# Altium footprint library data_cards.PcbLib: 9 footprints
Each footprint in its own frame and in the unit in brackets; x right, y up, seen from the top. Pads: shape width x height; smd on the part's side, far side on the other; paste and mask are expansions set on the pad; w line width, h text height; cw(c..) or ccw(c..) is an arc to the next point about the centre after c.
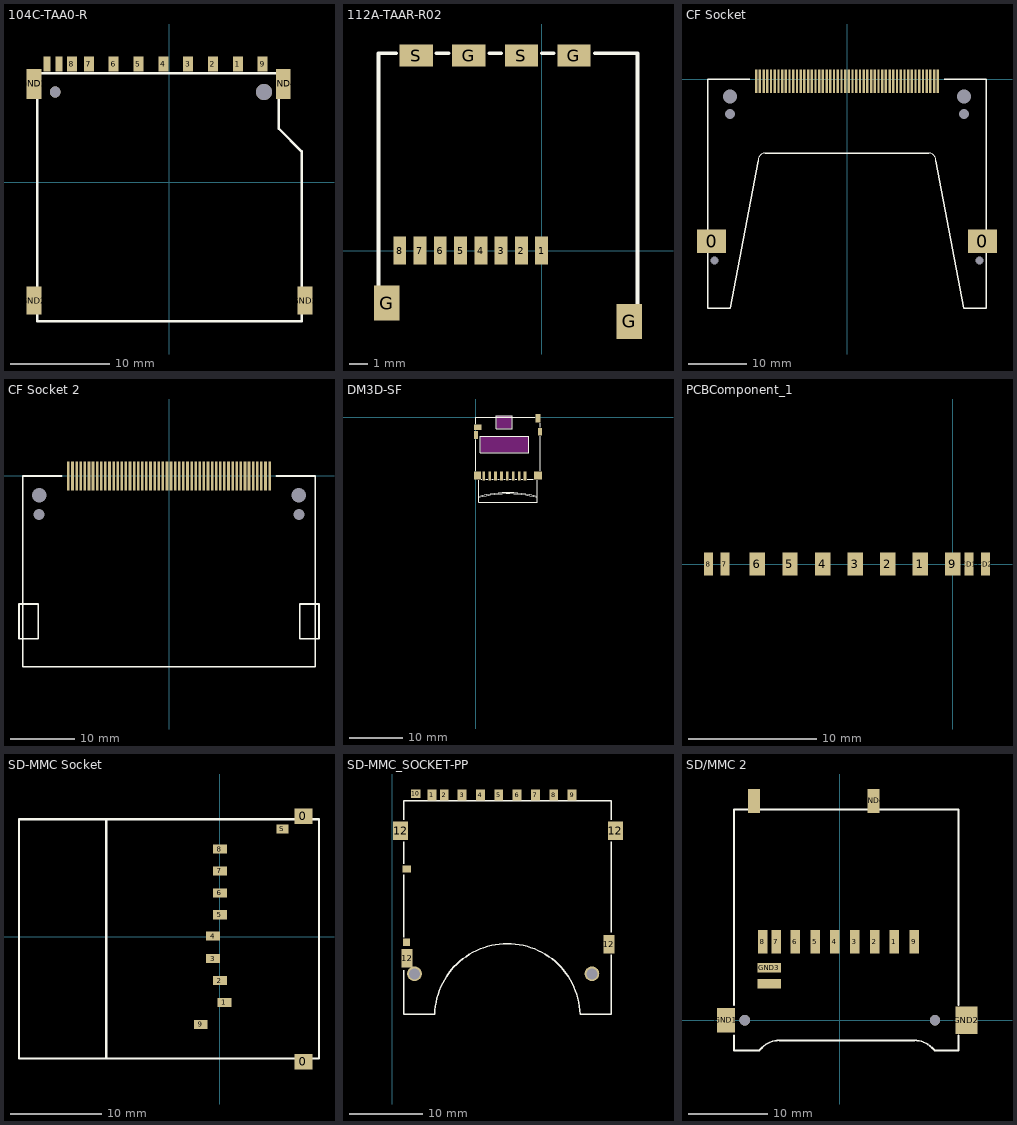
[diagram p0: the footprints below, top view; thin cyan lines are the x and y axes]

## 104C-TAA0-R [mm] "Attend Technology SD/MMC Card Connector"
pads (15):
  rect 1x1.5 smd: 1(6.875,11.9) 2(4.375,11.9) 3(1.875,11.9) 4(-0.625,11.9) 5(-3.125,11.9) 6(-5.625,11.9) 7(-8.125,11.9) 8(-9.825,11.9) 9(9.375,11.9)
  rect 0.7x1.5 smd: CardDetect(-11.125,11.9) WriteProtect(-12.325,11.9)
  rect 1.5x3 smd: GND1(-13.65,9.9) GND4(11.45,9.9)
  rect 1.5x2.8 smd: GND2(-13.65,-11.9) GND3(13.65,-11.9)
via 9.5,9.1 diameter 1.6 hole 1.6
via -11.5,9.1 diameter 1.1 hole 1.1
Top Overlay:
  lines w0.254: -13.3,-14 -13.3,11 11,11 11,5.4 13.3,3.1 13.3,-14 -13.3,-14
3D body: height 3.29, standoff -0.76, extent -14.065,-14.156 13.665,12.2

## 112A-TAAR-R02 [mm] "SD Micro; with ejector; SMD; 40m?; UL94V-0"
height 1.78
pads (14):
  rect 0.7x1.5 smd: 1(0,0) 2(-1.1,0) 3(-2.2,0) 4(-3.3,0) 5(-4.4,0) 6(-5.5,0) 7(-6.6,0) 8(-7.7,0)
  rect 1.4x1.9 smd: G(-8.4,-2.85) G(4.75,-3.85)
  rect 1.8x1.2 smd: G(-3.95,10.575) G(1.75,10.575) S(-6.8,10.575) S(-1.1,10.575)
Top Overlay:
  lines w0.2: -8.85,-1.9 -8.85,10.7 -7.9,10.7 ; -5.7,10.7 -5.05,10.7 ; -2.85,10.7 -2.2,10.7 ; 0,10.7 0.65,10.7 ; 2.875,10.7 5.175,10.7 ; 5.2,-2.9 5.2,10.7

## CF Socket [mil]
pads (58):
  rect 196.85x157.48 smd: 0(-913.56,-1094.27) 0(913.56,-1094.27)
  round 0 hole 51.18: 0(-893.7,-1224.19) 0(893.7,-1224.19)
  round 0 hole 67: 0(-790.5,-236) 0(790.5,-236)
  round 0 hole 94.87: 0(-790.5,-118) 0(790.5,-118)
  rect 16x157.48 smd: 1(-612.5,-15.75) 2(-562.5,-15.75) 3(-512.5,-15.75) 4(-462.5,-15.75) 5(-412.5,-15.75) 6(-362.5,-15.75) 7(-312.5,-15.75) 8(-262.5,-15.75) 9(-212.5,-15.75) 10(-162.5,-15.75) 11(-112.5,-15.75) 12(-62.5,-15.75) 13(-12.5,-15.75) 14(37.5,-15.75) 15(87.5,-15.75) 16(137.5,-15.75) 17(187.5,-15.75) 18(237.5,-15.75) 19(287.5,-15.75) 20(337.5,-15.75) 21(387.5,-15.75) 22(437.5,-15.75) 23(487.5,-15.75) 24(537.5,-15.75) 25(587.5,-15.75) 26(-587.5,-15.75) 27(-537.5,-15.75) 28(-487.5,-15.75) 29(-437.5,-15.75) 30(-387.5,-15.75) 31(-337.5,-15.75) 32(-287.5,-15.75) 33(-237.5,-15.75) 34(-187.5,-15.75) 35(-137.5,-15.75) 36(-87.5,-15.75) 37(-37.5,-15.75) 38(12.5,-15.75) 39(62.5,-15.75) 40(112.5,-15.75) 41(162.5,-15.75) 42(212.5,-15.75) 43(262.5,-15.75) 44(312.5,-15.75) 45(362.5,-15.75) 46(412.5,-15.75) 47(462.5,-15.75) 48(512.5,-15.75) 49(562.5,-15.75) 50(612.5,-15.75)
Top Overlay:
  lines w7.87: -600,-550 cw(c-550,-550) -550,-500 ; 550,-500 cw(c550,-550) 600,-550
  lines w10: -655,0 -940.94,0 -940.94,-1546.85 -787.4,-1546.85 -600,-550 ; -550,-500 550,-500 ; 600,-550 787.4,-1546.85 940.94,-1546.85 940.94,0 655,0

## CF Socket 2 [mil]
pads (54):
  round 0 hole 67: 0(-790.5,-236) 0(790.5,-236)
  round 0 hole 87: 0(-790.5,-118) 0(790.5,-118)
  rect 16x177 smd: 1(-612.5,0) 2(-587.5,0) 3(-562.5,0) 4(-537.5,0) 5(-512.5,0) 6(-487.5,0) 7(-462.5,0) 8(-437.5,0) 9(-412.5,0) 10(-387.5,0) 11(-362.5,0) 12(-337.5,0) 13(-312.5,0) 14(-287.5,0) 15(-262.5,0) 16(-237.5,0) 17(-212.5,0) 18(-187.5,0) 19(-162.5,0) 20(-137.5,0) 21(-112.5,0) 22(-87.5,0) 23(-62.5,0) 24(-37.5,0) 25(-12.5,0) 26(12.5,0) 27(37.5,0) 28(62.5,0) 29(87.5,0) 30(112.5,0) 31(137.5,0) 32(162.5,0) 33(187.5,0) 34(212.5,0) 35(237.5,0) 36(262.5,0) 37(287.5,0) 38(312.5,0) 39(337.5,0) 40(362.5,0) 41(387.5,0) 42(412.5,0) 43(437.5,0) 44(462.5,0) 45(487.5,0) 46(512.5,0) 47(537.5,0) 48(562.5,0) 49(587.5,0) 50(612.5,0)
Top Overlay:
  lines w10: -655,0 -891.5,0 -891.5,-1161 891.5,-1161 891.5,0 655,0 ; -913.5,-992.5 -795.5,-992.5 -795.5,-779.5 -913.5,-779.5 -913.5,-992.5 ; 795.5,-992.5 913.5,-992.5 913.5,-779.5 795.5,-779.5 795.5,-992.5

## DM3D-SF [mm] "Hirose DM3D-SF, Push-Pull (no ejection mechanism) Micro SD Card Socket"
height 1.55
pads (14):
  rect 0.5x1.75 smd: 1(9.15,-10.925) 2(8.05,-10.925) 3(6.95,-10.925) 4(5.85,-10.925) 5(4.75,-10.925) 6(3.65,-10.925) 7(2.55,-10.925) 8(1.45,-10.925)
  rect 1x1.55 smd: CD1(11.575,-0.125)
  rect 1.45x1 smd: CD2(0.325,-1.8)
  rect 1.5x1.5 smd: Mech1(11.6,-10.8)
  rect 0.8x1.4 smd: Mech2(11.95,-2.65)
  rect 0.8x1.5 smd: Mech3(0,-3.3)
  rect 1.3x1.5 smd: Mech4(0.25,-10.8)
Top Overlay:
  lines w0.1: -0.075,-9.9 -0.075,-4.2 ; -0.075,-1.15 -0.075,0.075 10.925,0.075 ; 0.475,-15 cw(c5.975,-34.791) 11.475,-15 ; 0.475,-14.775 cw(c5.975,-34.566) 11.475,-14.775 ; 0.475,-11.7 0.475,-15.8 11.475,-15.8 11.475,-11.7 ; 1.025,-11.525 1.05,-11.525 ; 1.85,-11.525 2.15,-11.525 ; 2.95,-11.525 3.25,-11.525 ; 4.05,-11.525 4.35,-11.525 ; 5.15,-11.525 5.45,-11.525 ; 6.25,-11.525 6.55,-11.525 ; 7.35,-11.525 7.65,-11.525 ; 8.45,-11.525 8.75,-11.525 ; 9.55,-11.525 10.7,-11.525 ; 12.025,-9.9 12.025,-3.5 ; 12.025,-1.8 12.025,-1.05 ; 3.775,0.325 3.775,0.325 ; 3.775,0.325 6.725,0.325 6.725,-2.125 3.775,-2.125 3.775,0.325 ; 0.775,-6.625 9.825,-6.625 9.825,-3.475 0.775,-3.475 0.775,-3.5 0.775,-6.625
Keep-Out Layer:
  rectangle: 0.85,-6.55 9.75,-3.55
  rectangle: 3.85,-2.05 6.65,0.25
3D body: height 1.55, standoff 0, extent 0,-11.45 11.95,0

## PCBComponent_1 [mm]
pads (11):
  rect 1.2x1.8 smd: 1(-2.54,0) 2(-5.08,0) 3(-7.62,0) 4(-10.16,0) 5(-12.7,0) 6(-15.24,0) 9(0,0)
  rect 0.7x1.8 smd: 7(-17.78,0) 8(-19.05,0) CD1(1.27,0) CD2(2.54,0)

## SD-MMC Socket [mm]
pads (12):
  rect 2x1.7 smd: 0(9.15,-13.7) 0(9.15,13.2)
  rect 1.5x1 smd: 1(0.5,-7.2) 2(0,-4.8) 3(-0.75,-2.4) 4(-0.75,0.064) 5(0,2.4) 6(0,4.8) 7(0,7.2) 8(0,9.6) 9(-2.1,-9.6)
  rect 1.3x1 smd: S(6.85,11.8)
Top Overlay:
  lines w0.254: -12.45,-13.34 -22,-13.34 -22,12.86 -12.45,12.86 ; -12.45,-13.34 10.85,-13.34 10.85,12.86 -12.45,12.86 ; -12.45,-13.34 -12.45,12.86

## SD-MMC_SOCKET-PP [mm]
height 2
pads (18):
  rect 1.2x1.5 smd: 1(5.385,-6.833) 2(7.073,-6.853) 3(9.493,-6.853) 4(11.993,-6.853) 5(14.493,-6.853) 6(16.993,-6.853) 7(19.493,-6.853) 8(21.993,-6.853) 9(24.493,-6.853)
  rect 1.3x1.1 smd: 10(3.175,-6.655)
  rect 1.15x1 smd: 11(1.933,-16.903)
  rect 2x2.5 smd: 12(1.113,-11.703) 12(30.413,-11.703)
  rect 1x1.05 smd: 12(1.933,-26.903)
  rect 1.5x2.5 smd: 12(2.013,-29.103) 12(29.515,-27.178)
  round 2 hole 1.5 unplated: ""(3.013,-31.203) ""(27.213,-31.203)
Top Overlay:
  lines w0.203: 1.513,-30.703 1.513,-36.703 5.773,-36.703 cw(c15.683,-37) 25.593,-36.703 29.863,-36.703 29.863,-28.575 ; 1.513,-26.203 1.513,-17.703 ; 1.513,-16.203 1.513,-13.203 ; 1.513,-10.203 1.513,-7.603 29.863,-7.603 29.863,-10.203 ; 29.863,-25.527 29.863,-13.203

## SD/MMC 2 [mm]
pads (15):
  rect 1.2x3 smd: 1(6.87,9.9) 2(4.37,9.9) 3(1.87,9.9) 4(-0.63,9.9) 5(-3.13,9.9) 6(-5.63,9.9) 7(-8,9.9) 8(-9.75,9.9) 9(9.37,9.9)
  rect 1.5x3 smd: CardDetect(-10.83,27.65) GND4(4.25,27.65)
  rect 2.3x3.1 smd: GND1(-14.35,0)
  rect 2.8x3.5 smd: GND2(15.95,0)
  rect 3x1.2 smd: GND3(-8.9,6.6) WriteProtect(-8.9,4.6)
via -12,0 diameter 1.3 hole 1.3
via 12,0 diameter 1.3 hole 1.3
Top Overlay:
  lines w0.2: -9.788,-3.438 cw(c-7.62,-5.606) -7.62,-2.54 ; 9.398,-2.54 cw(c9.398,-5.606) 11.566,-3.438
  lines w0.254: -13.335,-1.905 -13.335,-3.81 -10.16,-3.81 -9.788,-3.438 ; -13.335,1.905 -13.335,26.543 14.986,26.543 14.986,26.289 14.986,1.905 ; -7.62,-2.54 0,-2.54 9.398,-2.54 ; 11.566,-3.438 11.938,-3.81 14.859,-3.81 14.986,-3.81 14.986,-1.905